# EAGLE library part ARDUINO-PRO-MINI (library 00 Arduino-clone)
Arduino Pro-Mini Arduino Clone by KubaMiszcz 2016
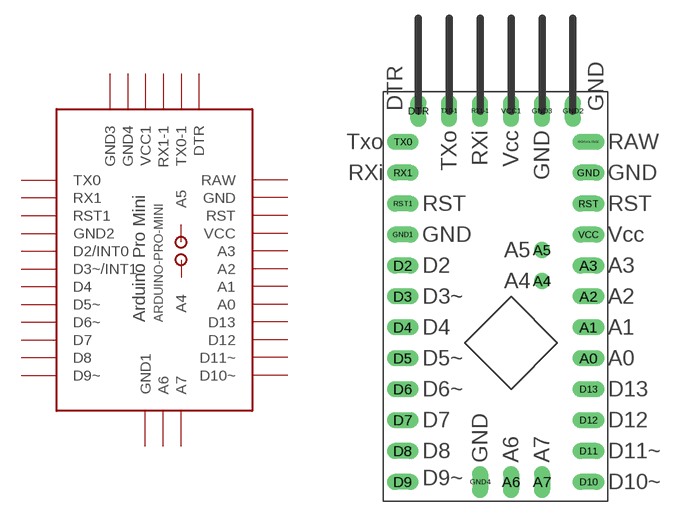
[diagram p1: symbol with the pads of ARDUINO-PRO-MINI; footprint ARDUINO-PRO-MINI]

Designator prefix -

## ARDUINO-PRO-MINI  [ARDUINO-PRO-MINI]
A0  A0
A1  A1
A2  A2
A3  A3
A4  A4
A5  A5
A6  A6
A7  A7
D2  D2/INT0
D3  D3~/INT1
D4  D4
D5  D5~
D6  D6~
D7  D7
D8  D8
D9  D9~
D10  D10~
D11  D11~
D12  D12
D13  D13
DTR  DTR
GND  GND  pwr
GND1  GND1  pwr
GND2  GND2  pwr
GND3  GND3
GND4  GND4
RAWVOLTAGE  RAW
RST  RST
RST1  RST1
RX1  RX1
RX1-1  RX1-1
TX0  TX0
TX0-1  TX0-1
VCC  VCC  pwr
VCC1  VCC1  pwr

## Footprint ARDUINO-PRO-MINI (pad centres in mm)
ABK-PRO-MINI
drill 0.8 long: A0 7.62,-1.27; A1 7.62,1.27; A2 7.62,3.81; A3 7.62,6.35; A6 1.27,-11.43; A7 3.81,-11.43; D2 -7.62,6.35; D3 -7.62,3.81; D4 -7.62,1.27; D5 -7.62,-1.27; D6 -7.62,-3.81; D7 -7.62,-6.35; D8 -7.62,-8.89; D9 -7.62,-11.43; D10 7.62,-11.43; D11 7.62,-8.89; D12 7.62,-6.35; D13 7.62,-3.81; DTR -6.35,19.05; GND 7.62,13.97; GND1 -7.62,8.89; GND2 6.35,19.05; GND3 3.81,19.05; GND4 -1.27,-11.43; RAWVOLTAGE 7.62,16.51; RST 7.62,11.43; RST1 -7.62,11.43; RX1 -7.62,13.97; RX1-1 -1.27,19.05; TX0 -7.62,16.51; TX0-1 -3.81,19.05; VCC 7.62,8.89; VCC1 1.27,19.05
drill 0.8: A4 3.81,5.08; A5 3.81,7.62